# Altium footprint library EnviromentalBoard.PcbLib: 18 footprints (part 2 of 2)
Each footprint in its own frame and in the unit in brackets; x right, y up, seen from the top. Pads: shape width x height; smd on the part's side, far side on the other; paste and mask are expansions set on the pad; w line width, h text height; cw(c..) or ccw(c..) is an arc to the next point about the centre after c.
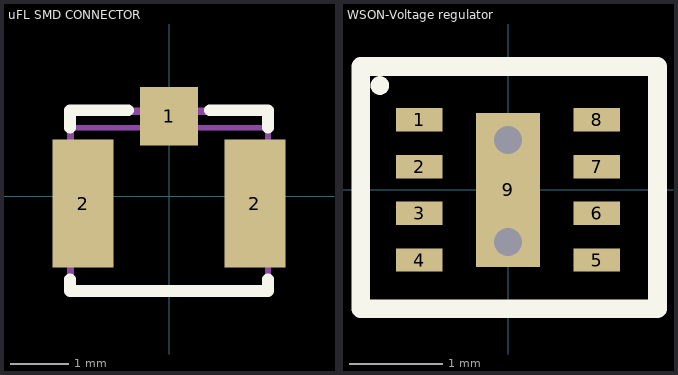
[diagram p1: the footprints below, top view; thin cyan lines are the x and y axes]

## uFL SMD CONNECTOR [mm]
pads (3):
  rect 1x1 smd: 1(0,1.373)
  rect 1.05x2.2 smd: 2(-1.475,-0.127) 2(1.475,-0.127)
Top Overlay:
  lines w0.2: -1.7,-1.427 -1.7,-1.627 1.7,-1.627 1.7,-1.427 ; -1.7,1.173 -1.7,1.473 -0.7,1.473 ; 0.7,1.473 1.7,1.473 1.7,1.173
Mechanical 16:
  lines w0.1: -1.7,1.173 1.7,1.173 ; -1.7,-1.627 -1.7,1.473 1.7,1.473 1.7,-1.627 -1.7,-1.627
Mechanical 29:
  lines w0.1: -1.69,-1.6 1.7,-1.6 1.7,1.42 1.68,1.44 -1.68,1.44 -1.68,-1.59 -1.69,-1.6
  text "'.Designator'" at -1.1,-0.3 h1
3D body "SW3dPS-UFL-R-SMD.STEP": height 1.25, standoff 0, extent -1.7,-1.55 1.7,1.55

## WSON-Voltage regulator [mm] "SON, 8-Leads, Body 2.00x2.00mm, Pitch 0.50mm, Thermal Pad 1.65x0.69mm, IPC Medium Density"
height 0.8
pads (9):
  rect 0.5x0.25 smd: 1(-0.95,0.75) 2(-0.95,0.25) 3(-0.95,-0.25) 4(-0.95,-0.75) 5(0.95,-0.75) 6(0.95,-0.25) 7(0.95,0.25) 8(0.95,0.75)
  rect 0.69x1.65 smd: 9(0,0)
via 0,0.533 diameter 0.5 hole 0.3
via 0,-0.559 diameter 0.5 hole 0.3
Top Overlay:
  circle w0.1: c-1.372,1.118 r0.05
  lines w0.2: -1.575,-1.27 -1.575,1.321 1.6,1.321 1.6,-1.27 -1.575,-1.27
Mechanical 29:
  lines w0.1: -1.605,-1.3 -1.605,1.3 1.605,1.3 1.605,-1.3 -1.605,-1.3
  text "'.Designator'" at -1.321,-0.254 h1
3D body: height 0.8, standoff 0.2, extent -1.05,-1.05 1.05,1.05